# Altium schematic symbol library Logic Gate.SchLib: 73 symbols
Pins are listed as number, name and electrical type; pins without a type are passive.

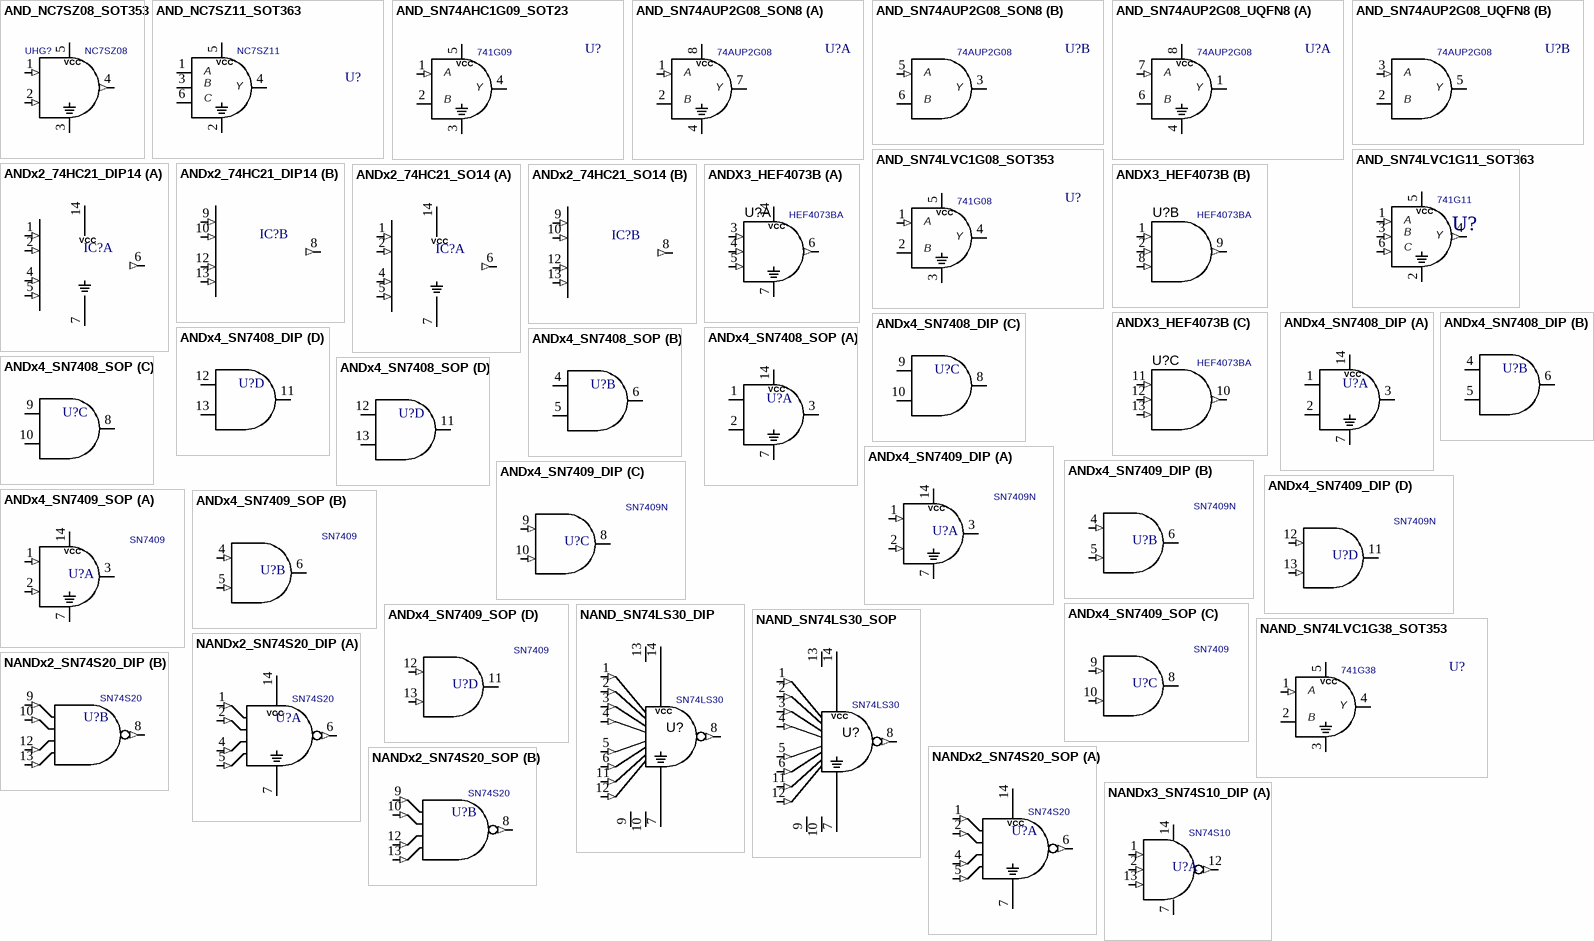
[diagram p0: symbols AND_NC7SZ08_SOT353 to NANDx3_SN74S10_DIP]

## AND_NC7SZ08_SOT353
designator UHG?, comment NC7SZ08
Gate, AND; MANF: FAIRCHILD; DIST#: MOUSER/512-NC7SZ08P5X; MANF_P#: NC7SZ08P5X; PRICE: 1= 0.34$; VALUE: NC7SZ08
footprint SOT353_5 (SC-88A, SC70-5, SOT-353, DCK (TI), DSO65_5_200X130)
pins: 1 A (in), 2 B (in), 3 GND, 4 Y (out), 5 VCC

## AND_NC7SZ11_SOT363
designator U?, comment NC7SZ11
GATE, AND, 3INP; MANF: Fairchild/ON; MANF_P#: NC7SZ11P6X; VALUE: NC7SZ11
footprint SOT363_6 (SOT-363, SC-70_6, BFS483, SC-88, MO-203AB, DSO65_6_200X130)
pins: 1 A, 2 Gnd (power), 3 B, 4 Y, 5 V+ (power), 6 C
text: VCC

## AND_SN74AHC1G09_SOT23
designator U?, comment 741G09
GATE, AND, 2INP, SOT23-5; MANF: TI; MANF_P#: SN74AHC1G09DBVR; PARAM2: 2~5.5VCC, 0.5~1.65VLO, 1.5~3.85VHI; PARAM: 8mA, 7.5ns@5V, 50pF, Open Drain; PRICE: 0.49$; VALUE: 741G09
footprint SOT23_5 (SOT-23-5, SOT25, SOT-25, DBV(R-PDSO-G5), TSOT23-5, SC-74A, SOT23-5, S5-T (LINEAR), MO-178AA, MO-193AB(JEDEC), MF05A (NS), TSOP-6(ON), UJ-5 (AD), 0.95mm pitch 3X1.5mm)
pins: 1 A (in), 2 B, 3 GND (power), 4 Y, 5 VCC (power)

## AND_SN74AUP2G08_SON8
designator U?, comment 74AUP2G08
GATE, AND, DUAL, 2INP, DQE package; MANF: TI; MANF_P#: SN74AUP2G08DQE; PARAM2: 0.8~3.6VCC; PARAM: 4mA, 5.9ns@3.3V, 1.5pF; PRICE: 0.5$; VALUE: 74AUP2G08
footprint SON35_8 (X2SON-8-DQE, pitch: 0.35mm, 1.4mmX1.00mm)
part A pins: 1 A1 (in), 2 B1, 4 GND (power), 7 Y1, 8 VCC (power)
part B pins: 3 Y2, 5 A2 (in), 6 B2
part A text: A; Y; B
part B text: A; Y; B

## AND_SN74AUP2G08_UQFN8
designator U?, comment 74AUP2G08
GATE, AND, DUAL, 2INP; MANF: TI; MANF_P#: SN74AUP2G08RSE; PARAM2: 0.8~3.6VCC; PARAM: 4mA, 5.9ns@3.3V, 1.5pF; PRICE: 0.8$; VALUE: 74AUP2G08
footprint QFN50_8 (RSE UQFN-8, 1.5X1.5X.6mm)
part A pins: 1 Y1, 4 GND (power), 6 B1, 7 A1 (in), 8 VCC (power)
part B pins: 2 B2, 3 A2 (in), 5 Y2
part A text: A; Y; B
part B text: A; Y; B

## AND_SN74LVC1G08_SOT353
designator U?, comment 741G08
GATE, AND, 2INP, SC-70-5; MANF: TI; MANF_P#: SN74LVC1G08DCKR; PARAM2: 2~5.5VCC, 0.5~1.65VLO, 1.5~3.85VHI; PARAM: 24mA, 3.6ns@3.3V, 50pF; PRICE: 0.49$; VALUE: 741G08
footprint SOT353_5 (SC-88A, SC70-5, SOT-353, DCK (TI), 0.65mm pitch 2X1.3mm body)
pins: 1 A (in), 2 B, 3 GND (power), 4 Y, 5 VCC (power)

## AND_SN74LVC1G11_SOT363
designator U?, comment 741G11
GATE, AND, 3INP, SC70-6; MANF: TI; MANF_P#: SN74LVC1G11DCK; VALUE: 741G11
footprint SOT363_6 (SOT-363, SC-70_6, BFS483, SC-88, MO-203AB, DSO65_6_200X130)
pins: 1 A (in), 2 GND, 3 B (in), 4 Y (out), 5 VCC, 6 C (in)

## ANDx2_74HC21_DIP14
designator IC?, comment 74HC21A  (value not drawn)
Gate, AND, Dual 4-Input; MANF: Texas Instruments; MANF_P#: SN74HC21N; Value: 74HC21A
footprint SO_14 (SOP, SOIC, 3.9mm width, 1.27mm pitch,)
part A pins: 1 A (in), 2 B (in), 4 C (in), 5 D (in), 6 Y (out), 7 GND (power), 14 VCC (power)
part B pins: 8 Y (out), 9 A (in), 10 B (in), 12 C (in), 13 D (in)

## ANDx2_74HC21_SO14
designator IC?, comment 74HC21A  (value not drawn)
Gate, AND, Dual 4-Input; MANF: Texas Instruments; MANF_P#: SN74HC21D; Value: 74HC21A
footprint SO_14 (SOP, SOIC, 3.9mm width, 1.27mm pitch,)
part A pins: 1 A (in), 2 B (in), 4 C (in), 5 D (in), 6 Y (out), 7 GND (power), 14 VCC (power)
part B pins: 8 Y (out), 9 A (in), 10 B (in), 12 C (in), 13 D (in)

## ANDX3_HEF4073B
designator U?, comment HEF4073BA
Gate, AND, Triple 3-input, SOP14; MANF: NXP Semiconductors; MANF_P#: HEF4073BT,653; PARAM2: 3 V ~ 15 V; PARAM: 3mA, 3mA; VALUE: HEF4073BA
footprint SO_14 (SOP, SOIC, 3.9mm width, 1.27mm pitch,)
part A pins: 3 A1 (in), 4 B1 (in), 5 C1 (in), 6 Y1 (out), 7 GND (power), 14 VCC (power)
part B pins: 1 A2 (in), 2 B2 (in), 8 C2 (in), 9 Y2 (out)
part C pins: 10 Y3 (out), 11 A3 (in), 12 B3 (in), 13 C3 (in)

## ANDx4_SN7408_DIP
designator U?, comment SN7408  (value not drawn)
Gate, AND, Quad 2 Input; MANF: Texas Instruments; MANF_P#: SN74LS08N; Value: SN7408
footprint DIP_14 (DIP, pitch 2.54mm, 300mil Width)
part A pins: 1, 2, 3, 7 GND (power), 14 VCC (power)
part B pins: 4, 5, 6
part C pins: 8, 9, 10
part D pins: 11, 12, 13

## ANDx4_SN7408_SOP
designator U?, comment SN7408  (value not drawn)
Gate, AND, Quad 2 Input; MANF: Texas Instruments; MANF_P#: SN74LS08D; Value: SN7408
footprint SO_14 (SOP, SOIC, 3.9mm width, 1.27mm pitch,)
part A pins: 1, 2, 3, 7 GND (power), 14 VCC (power)
part B pins: 4, 5, 6
part C pins: 8, 9, 10
part D pins: 11, 12, 13

## ANDx4_SN7409_DIP
designator U?, comment SN7409N
Gate, AND, Quad 2-Input with Open-Collector Outputs; MANF: Texas Instruments; MANF_P#: SN7409N; VALUE: SN7409N
footprint DIP_14 (DIP, pitch 2.54mm, 300mil Width)
part A pins: 1 A (in), 2 B (in), 3 Y (oc), 7 GND (power), 14 VCC (power)
part B pins: 4 A (in), 5 B (in), 6 Y (oc)
part C pins: 8 Y (oc), 9 A (in), 10 B (in)
part D pins: 11 Y (oc), 12 A (in), 13 B (in)

## ANDx4_SN7409_SOP
designator U?, comment SN7409
Gate, AND, Quad 2-Input with Open-Collector Outputs; MANF: Texas Instruments; MANF_P#: SN7409D; VALUE: SN7409
footprint SO_14 (SOP, SOIC, 3.9mm width, 1.27mm pitch,)
part A pins: 1 A (in), 2 B (in), 3 Y (oc), 7 GND (power), 14 VCC (power)
part B pins: 4 A (in), 5 B (in), 6 Y (oc)
part C pins: 8 Y (oc), 9 A (in), 10 B (in)
part D pins: 11 Y (oc), 12 A (in), 13 B (in)

## NAND_SN74LS30_DIP
designator U?, comment SN74LS30
GATE, NAND, 8INPUT; MANF: Texas Instruments; MANF_P#: SN74LS30N; PARAM2: 4.75V~5.25V; PARAM: 16mA, 22ns; VALUE: SN74LS30
footprint DIP_14 (DIP, pitch 2.54mm, 300mil Width)
pins: 1 A (in), 2 B (in), 3 C (in), 4 D (in), 5 E (in), 6 F (in), 7 GND (power), 8 Y (out), 9 NC, 10 NC, 11 G (in), 12 H (in), 13 NC, 14 VCC (power)

## NAND_SN74LS30_SOP
designator U?, comment SN74LS30
GATE, NAND, 8INPUT; MANF: Texas Instruments; MANF_P#: SN74LS30D; PARAM2: 4.75V~5.25V; PARAM: 16mA, 22ns; VALUE: SN74LS30
footprint SO_14 (SOP, SOIC, 3.9mm width, 1.27mm pitch,)
pins: 1 A (in), 2 B (in), 3 C (in), 4 D (in), 5 E (in), 6 F (in), 7 GND (power), 8 Y (out), 9 NC, 10 NC, 11 G (in), 12 H (in), 13 NC, 14 VCC (power)

## NAND_SN74LVC1G38_SOT353
designator U?, comment 741G38
GATE, NAND, 2INP, SC-70-5; MANF: TI; MANF_P#: SN74LVC1G38DCK; PARAM2: 2~5.5VCC, 0.5~1.65VLO, 1.5~3.85VHI; PARAM: 24mA, 3.6ns@3.3V, 50pF; PRICE: 0.35$; VALUE: 741G38
footprint SOT353_5 (SC-88A, SC70-5, SOT-353, DCK (TI), 0.65mm pitch 2X1.3mm body)
pins: 1 A (in), 2 B, 3 GND (power), 4 Y, 5 VCC (power)

## NANDx2_SN74S20_DIP
designator U?, comment SN74S20
GATE, NAND, Dual 4-Input; MANF: Texas Instruments; MANF_P#: SN74S20N; PARAM2: 4.75~5.25V; PARAM: 20mA, 5ns; VALUE: SN74S20
footprint DIP_14 (DIP, pitch 2.54mm, 300mil Width)
part A pins: 1 A (in), 2 B (in), 4 C (in), 5 D (in), 6 Y (out), 7 GND (power), 14 VCC (power)
part B pins: 8 Y (out), 9 A (in), 10 B (in), 12 C (in), 13 D (in)

## NANDx2_SN74S20_SOP
designator U?, comment SN74S20
GATE, NAND, Dual 4-Input; MANF: Texas Instruments; MANF_P#: SN74S20D; PARAM2: 4.75~5.25V; PARAM: 20mA, 5ns; VALUE: SN74S20
footprint SO_14 (SOP, SOIC, 3.9mm width, 1.27mm pitch,)
part A pins: 1 A (in), 2 B (in), 4 C (in), 5 D (in), 6 Y (out), 7 GND (power), 14 VCC (power)
part B pins: 8 Y (out), 9 A (in), 10 B (in), 12 C (in), 13 D (in)

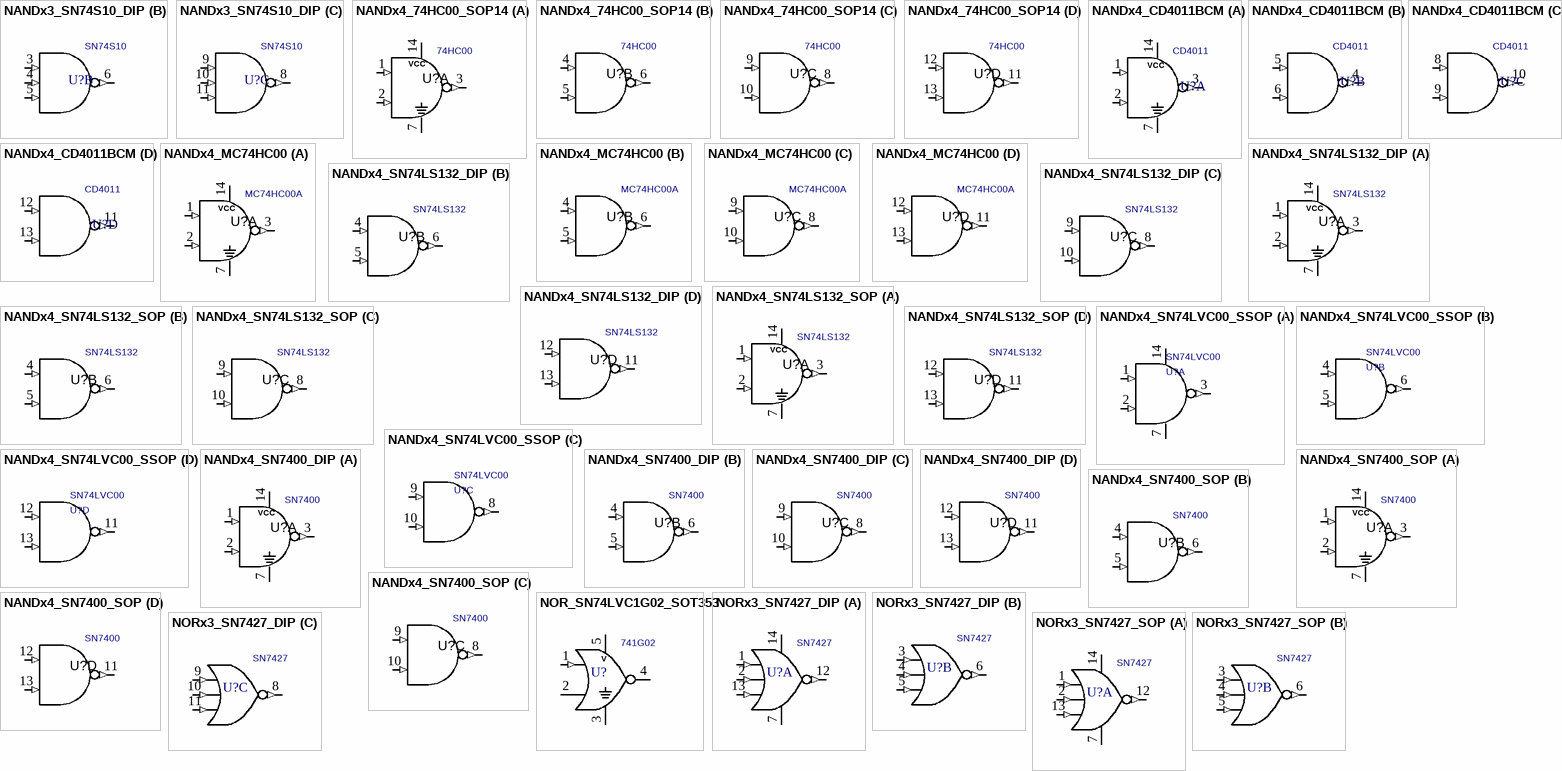
[diagram p1: symbols NANDx3_SN74S10_DIP to NORx3_SN7427_SOP]

## NANDx3_SN74S10_DIP
designator U?, comment SN74S10
Gate, NAND, Triple 3-Input; MANF: Texas Instruments; MANF_P#: SN74S10N; VALUE: SN74S10
footprint DIP_14 (DIP, pitch 2.54mm, 300mil Width)
part A pins: 1 A (in), 2 B (in), 7 GND (power), 12 Y (out), 13 C (in), 14 VCC (power)
part B pins: 3 A (in), 4 B (in), 5 C (in), 6 Y (out)
part C pins: 8 Y (out), 9 A (in), 10 B (in), 11 C (in)

## NANDx4_74HC00_SOP14
designator U?, comment 74HC00
GATE, NAND, QUAD 2INPUT; MANF: NXP; MANF_P#: 74HC00D; PARAM2: 2V~6V; PARAM: 20mA; PRICE: 300@PAYA; VALUE: 74HC00
footprint SO_14 (SOP, SOIC, 3.9mm width, 1.27mm pitch,)
part A pins: 1 A1 (in), 2 B1 (in), 3 Y1 (out), 7 GND (power), 14 VCC (power)
part B pins: 4 A2 (in), 5 B2 (in), 6 Y2 (out)
part C pins: 8 Y3 (out), 9 A3 (in), 10 B3 (in)
part D pins: 11 Y4 (out), 12 A4 (in), 13 B4 (in)

## NANDx4_CD4011BCM
designator U?, comment CD4011
GATE, NAND, Quad 2-Input; MANF_P#: CD4011BCMA; VALUE: CD4011
footprint SO_14 (SOP, SOIC, 3.9mm width, 1.27mm pitch,)
part A pins: 1 A (in), 2 B (in), 3 J (out), 7 GND (power), 14 VDD (power)
part B pins: 4 J (out), 5 A (in), 6 B (in)
part C pins: 8 A (in), 9 F (in), 10 J (out)
part D pins: 11 J (out), 12 A (in), 13 B (in)
part A text: VCC

## NANDx4_MC74HC00
designator U?, comment MC74HC00A
GATE, NAND, QUAD 2INPUT; MANF: ON Semiconductor; MANF_P#: MC74HC00ADG; PARAM2: 2~6V; PARAM: 5.2mA, 5.2mA; VALUE: MC74HC00A
footprint SO_14 (SOP, SOIC, 3.9mm width, 1.27mm pitch,)
part A pins: 1 A1 (in), 2 B1 (in), 3 Y1 (out), 7 GND (power), 14 VCC (power)
part B pins: 4 A2 (in), 5 B2 (in), 6 Y2 (out)
part C pins: 8 Y3 (out), 9 A3 (in), 10 B3 (in)
part D pins: 11 Y4 (out), 12 A4 (in), 13 B4 (in)

## NANDx4_SN74LS132_DIP
designator U?, comment SN74LS132
GATE, NAND, QUAD 2INPUT Schmitt Trigger; MANF: Texas Instruments; MANF_P#: SN74LS132N; PARAM2: 4.75V~5.25V; PARAM: 16mA, 40ns; VALUE: SN74LS132
footprint DIP_14 (DIP, pitch 2.54mm, 300mil Width)
part A pins: 1 A1 (in), 2 B1 (in), 3 Y1 (out), 7 GND (power), 14 VCC (power)
part B pins: 4 A2 (in), 5 B2 (in), 6 Y2 (out)
part C pins: 8 Y3 (out), 9 A3 (in), 10 B3 (in)
part D pins: 11 Y4 (out), 12 A4 (in), 13 B4 (in)

## NANDx4_SN74LS132_SOP
designator U?, comment SN74LS132
GATE, NAND, QUAD 2INPUT Schmitt Trigger; MANF: Texas Instruments; MANF_P#: SN74LS132D; PARAM2: 4.75V~5.25V; PARAM: 16mA, 40ns; VALUE: SN74LS132
footprint SO_14 (SOP, SOIC, 3.9mm width, 1.27mm pitch,)
part A pins: 1 A1 (in), 2 B1 (in), 3 Y1 (out), 7 GND (power), 14 VCC (power)
part B pins: 4 A2 (in), 5 B2 (in), 6 Y2 (out)
part C pins: 8 Y3 (out), 9 A3 (in), 10 B3 (in)
part D pins: 11 Y4 (out), 12 A4 (in), 13 B4 (in)

## NANDx4_SN74LVC00_SSOP
designator U?, comment SN74LVC00
GATE, NAND, QUAD 2Input; MANF: Texas Instruments; MANF_P#: SN74LVC00APWR; PARAM2: 2~3.6V; PARAM: 24mA, 4.3nS; VALUE: SN74LVC00
footprint SOG65_14 (PW TSSOP (TI), MO-153-AB (JEDEC), 14Lead, pitch: 0.65mm, 5x4.4x1.2mm)
part A pins: 1 A (in), 2 B (in), 3 Y (out), 7 GND (power), 14 VCC (power)
part B pins: 4 A (in), 5 B (in), 6 Y (out)
part C pins: 8 Y (out), 9 A (in), 10 B (in)
part D pins: 11 Y (out), 12 A (in), 13 B (in)

## NANDx4_SN7400_DIP
designator U?, comment SN7400
GATE, NAND, QUAD 2INPUT; MANF: Texas Instruments; MANF_P#: SN7400N; PARAM2: 4.75V~5.25V; PARAM: 16mA; VALUE: SN7400
footprint DIP_14 (DIP, pitch 2.54mm, 300mil Width)
part A pins: 1 A1 (in), 2 B1 (in), 3 Y1 (out), 7 GND (power), 14 VCC (power)
part B pins: 4 A2 (in), 5 B2 (in), 6 Y2 (out)
part C pins: 8 Y3 (out), 9 A3 (in), 10 B3 (in)
part D pins: 11 Y4 (out), 12 A4 (in), 13 B4 (in)

## NANDx4_SN7400_SOP
designator U?, comment SN7400
GATE, NAND, QUAD 2INPUT; MANF: Texas Instruments; MANF_P#: SN7400D; PARAM2: 4.75V~5.25V; PARAM: 16mA; VALUE: SN7400
footprint SO_14 (SOP, SOIC, 3.9mm width, 1.27mm pitch,)
part A pins: 1 A1 (in), 2 B1 (in), 3 Y1 (out), 7 GND (power), 14 VCC (power)
part B pins: 4 A2 (in), 5 B2 (in), 6 Y2 (out)
part C pins: 8 Y3 (out), 9 A3 (in), 10 B3 (in)
part D pins: 11 Y4 (out), 12 A4 (in), 13 B4 (in)

## NOR_SN74LVC1G02_SOT353
designator U?, comment 741G02
GATE, NOR, One 2 INPUT; MANF: Texas Instruments; MANF_P#: SN74LVC1G02MDCK; VALUE: 741G02
footprint SOT353_5 (SC-88A, SC70-5, SOT-353, DCK (TI), 0.65mm pitch 2X1.3mm body)
pins: 1 A (in), 2 B, 3 GND (power), 4 Y, 5 VCC (power)
text: V

## NORx3_SN7427_DIP
designator U?, comment SN7427
Gate, NOR, Triple 3-Input; MANF: Texas Instruments; MANF_P#: SN74LS27N; PARAM2: 4.75~5.25V; PARAM: 16mA, 22ns; VALUE: SN7427
footprint DIP_14 (DIP, pitch 2.54mm, 300mil Width)
part A pins: 1 A (in), 2 B (in), 7 GND (power), 12 Y (out), 13 C (in), 14 VCC (power)
part B pins: 3 A (in), 4 B (in), 5 C (in), 6 Y (out)
part C pins: 8 Y (out), 9 A (in), 10 B (in), 11 C (in)

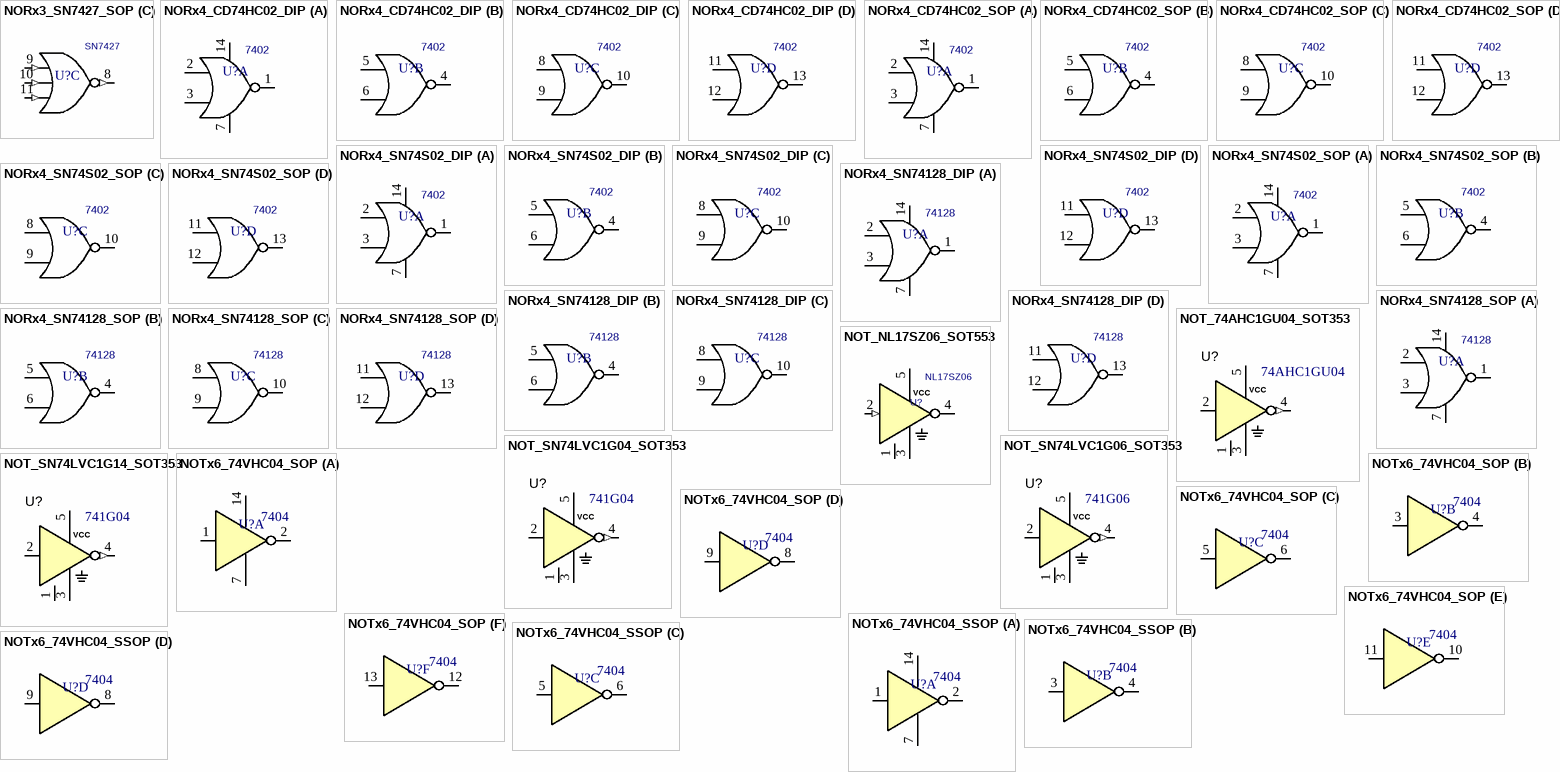
[diagram p2: symbols NORx3_SN7427_SOP to NOTx6_74VHC04_SSOP]

## NORx3_SN7427_SOP
designator U?, comment SN7427
Gate, NOR, Triple 3-Input; MANF: Texas Instruments; MANF_P#: SN74LS27D; PARAM2: 4.75~5.25V; PARAM: 16mA, 22ns; VALUE: SN7427
footprint SO_14 (SOP, SOIC, 3.9mm width, 1.27mm pitch,)
part A pins: 1 A (in), 2 B (in), 7 GND (power), 12 Y (out), 13 C (in), 14 VCC (power)
part B pins: 3 A (in), 4 B (in), 5 C (in), 6 Y (out)
part C pins: 8 Y (out), 9 A (in), 10 B (in), 11 C (in)

## NORx4_CD74HC02_DIP
designator U?, comment 7402
Gate, NOR, Quad 2 Input; MANF: Texas Instruments; MANF_P#: CD74HC02E; PARAM2: 2~6V; PARAM: 5.2mA, 23ns; Value: 7402
footprint DIP_14 (DIP, pitch 2.54mm, 300mil Width)
part A pins: 1, 2, 3, 7 GND, 14 VCC
part B pins: 4, 5, 6
part C pins: 8, 9, 10
part D pins: 11, 12, 13

## NORx4_CD74HC02_SOP
designator U?, comment 7402
Gate, NOR, Quad 2 Input; MANF: Texas Instruments; MANF_P#: CD74HC02M; PARAM2: 2~6V; PARAM: 5.2mA, 23ns; Value: 7402
footprint SO_14 (SOP, SOIC, 3.9mm width, 1.27mm pitch,)
part A pins: 1, 2, 3, 7 GND, 14 VCC
part B pins: 4, 5, 6
part C pins: 8, 9, 10
part D pins: 11, 12, 13

## NORx4_SN74S02_DIP
designator U?, comment 7402
Gate, NOR, Quad 2 Input; MANF: Texas Instruments; MANF_P#: SN74S02N; PARAM2: 4.75~5.25V; PARAM: 16mA, 22ns; Value: 7402
footprint DIP_14 (DIP, pitch 2.54mm, 300mil Width)
part A pins: 1, 2, 3, 7 GND, 14 VCC
part B pins: 4, 5, 6
part C pins: 8, 9, 10
part D pins: 11, 12, 13

## NORx4_SN74S02_SOP
designator U?, comment 7402
Gate, NOR, Quad 2 Input; MANF: Texas Instruments; MANF_P#: SN74S02D; PARAM2: 4.75~5.25V; PARAM: 16mA, 22ns; Value: 7402
footprint SO_14 (SOP, SOIC, 3.9mm width, 1.27mm pitch,)
part A pins: 1, 2, 3, 7 GND, 14 VCC
part B pins: 4, 5, 6
part C pins: 8, 9, 10
part D pins: 11, 12, 13

## NORx4_SN74128_DIP
designator U?, comment 74128
Gate, NOR, Quad 2 Input; MANF: Texas Instruments; MANF_P#: SN74128N; PARAM2: 4.75~5.25V; PARAM: 16mA, 22ns; Value: 74128
footprint DIP_14 (DIP, pitch 2.54mm, 300mil Width)
part A pins: 1, 2, 3, 7 GND, 14 VCC
part B pins: 4, 5, 6
part C pins: 8, 9, 10
part D pins: 11, 12, 13

## NORx4_SN74128_SOP
designator U?, comment 74128
Gate, NOR, Quad 2 Input; MANF: Texas Instruments; MANF_P#: SN74128D; PARAM2: 4.75~5.25V; PARAM: 16mA, 22ns; Value: 74128
footprint SO_14 (SOP, SOIC, 3.9mm width, 1.27mm pitch,)
part A pins: 1, 2, 3, 7 GND, 14 VCC
part B pins: 4, 5, 6
part C pins: 8, 9, 10
part D pins: 11, 12, 13

## NOT_74AHC1GU04_SOT353
designator U?, comment 74AHC1GU04
GATE, NOT, SINGLE, SOT353 SMD; MANF: NXP; MANF_P#: 74AHC1GU04GW,125; PARAM2: 2~5.5V; VALUE: 74AHC1GU04
footprint SOT353_5 (SC-88A, SC70-5, SOT-353, DCK (TI), 0.65mm pitch 2X1.3mm body)
pins: 1 NC, 2 A, 3 GND (power), 4 Y (out), 5 VCC (power)

## NOT_NL17SZ06_SOT553
designator U?, comment NL17SZ06
GATE, NOT, SINGLE 1.65-5.5V SOT-553; MANF: ON; MANF_P#: NL17SZ06XV5T2G; PARAM2: 1.65-5.5V; VALUE: NL17SZ06
footprint SOT553_5 (SOT-553, 5 LEAD, Body 1.2x1.6mm, Pitch 0.50mm, DSO50_5_160X120)
pins: 1 NC, 2 I (in), 3 G (power), 4 O (oc), 5 V (power)
text: VCC

## NOT_SN74LVC1G04_SOT353
designator U?, comment 741G04
GATE, NOT, SINGLE, SOT353 SMD; MANF: Texas Instruments; MANF_P#: SN74LVC1GU04DCK; PARAM2: 2~5.5V; VALUE: 741G04
footprint SOT353_5 (SC-88A, SC70-5, SOT-353, DCK (TI), 0.65mm pitch 2X1.3mm body)
pins: 1 NC, 2 A, 3 GND (power), 4 Y (out), 5 VCC (power)

## NOT_SN74LVC1G06_SOT353
designator U?, comment 741G06
GATE, NOT, SINGLE, SOT353 SMD; MANF: Texas Instruments; MANF_P#: SN74LVC1G06DCK; PARAM2: 1.65~5.5V; PARAM: 24mA, 4.5nsTpd, -40~125oC; VALUE: 741G06
footprint SOT353_5 (SC-88A, SC70-5, SOT-353, DCK (TI), 0.65mm pitch 2X1.3mm body)
pins: 1 NC, 2 A, 3 GND (power), 4 Y (out), 5 VCC (power)

## NOT_SN74LVC1G14_SOT353
designator U?, comment 741G04
GATE, NOT, SINGLE, ShmittTrigger, SOT353 SMD; MANF: Texas Instruments; MANF_P#: SN74LVC1GU14DCK; PARAM2: 2~5.5V; VALUE: 741G04
footprint SOT353_5 (SC-88A, SC70-5, SOT-353, DCK (TI), 0.65mm pitch 2X1.3mm body)
pins: 1 NC, 2 A, 3 GND (power), 4 Y (out), 5 VCC (power)

## NOTx6_74VHC04_SOP
designator U?, comment 7404
GATE, NOT, HEX inverter; MANF: ON; MANF_P#: 74VHC04M, 74VHC04MX; PARAM2: 2~5.5V; Value: 7404
footprint SO_14 (SOP, SOIC, 3.9mm width, 1.27mm pitch,)
footprint CDIP14 (14-Pin Ceramic DIP (DD14) NARROW_(300mil width) - 100mil pitch)
part A pins: 1, 2, 7 GND (power), 14 VCC (power)
part B pins: 3, 4
part C pins: 5, 6
part D pins: 8, 9
part E pins: 10, 11
part F pins: 12, 13

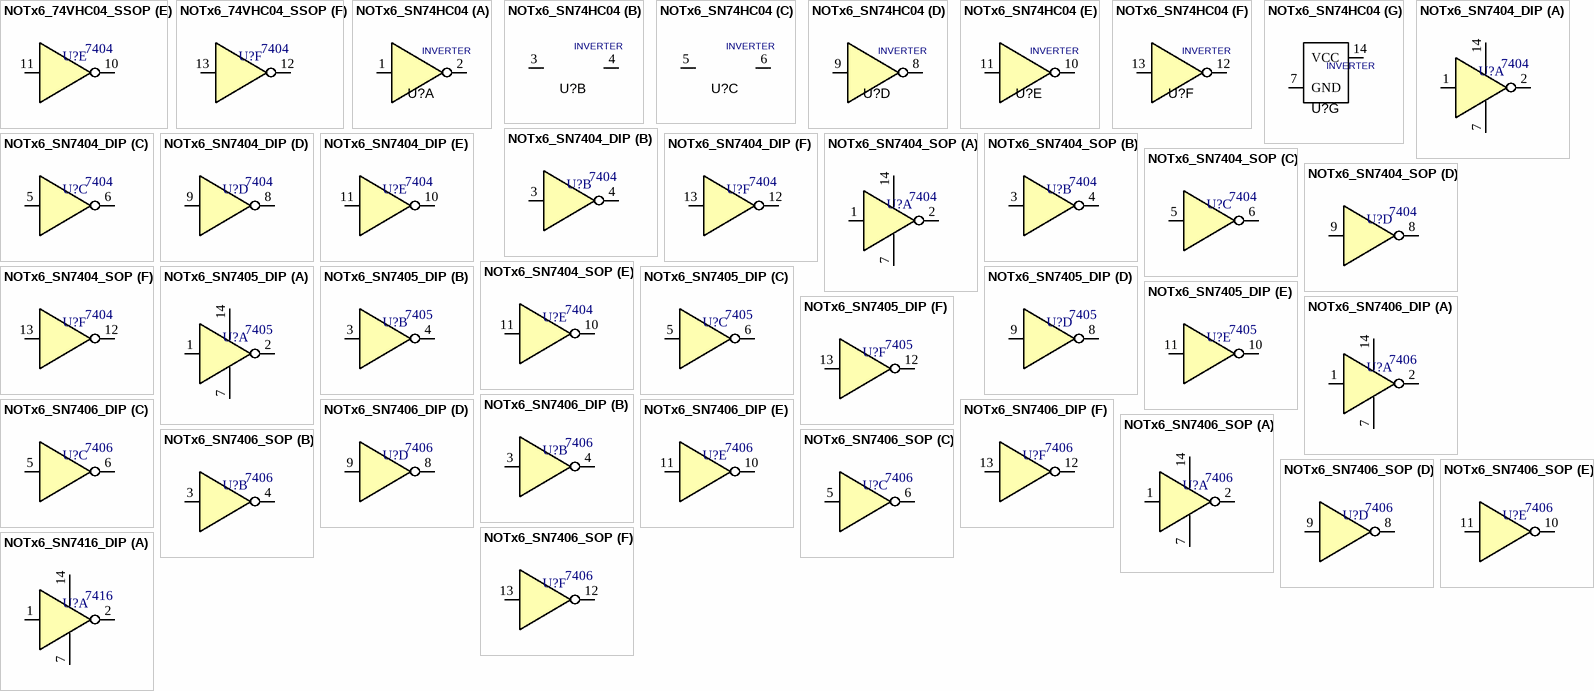
[diagram p3: symbols NOTx6_74VHC04_SSOP to NOTx6_SN7416_DIP]

## NOTx6_74VHC04_SSOP
designator U?, comment 7404
GATE, NOT, HEX inverter; MANF: ON; MANF_P#: 74VHC04MTC, 74VHC04MTCX; PARAM2: 2~5.5V; Value: 7404
footprint SOG65_14 (PW TSSOP (TI), MO-153-AB (JEDEC), 14Lead, pitch: 0.65mm, 5x4.4x1.2mm)
footprint CDIP14 (14-Pin Ceramic DIP (DD14) NARROW_(300mil width) - 100mil pitch)
part A pins: 1, 2, 7 GND (power), 14 VCC (power)
part B pins: 3, 4
part C pins: 5, 6
part D pins: 8, 9
part E pins: 10, 11
part F pins: 12, 13

## NOTx6_SN74HC04
designator U?, comment INVERTER
Inverter IC Logic-level 6 section SOP-14 SMD; MANF: Texas Instruments; MANF_P#: SN74HC04NSR; PARAM2: 2 V ~ 6 V; PARAM: 5.2mA, 5.2mA; VALUE: INVERTER
footprint SOIC127P780X200-14N (SOIC, 14 Leads, Body 10.5x3.9mm, Pitch 1.27mm, IPC Medium Density)
part A pins: 1 1A, 2 1Y
part B pins: 3 2A, 4 2Y
part C pins: 5 3A, 6 3Y
part D pins: 8 4Y, 9 4A
part E pins: 10 5Y, 11 5A
part F pins: 12 6Y, 13 6A
part G pins: 7 GND, 14 VCC

## NOTx6_SN7404_DIP
designator U?, comment 7404
GATE, NOT, HEX inverter; MANF: Texas Instruments; MANF_P#: SN74LS04N; Value: 7404
footprint DIP_14 (DIP, pitch 2.54mm, 300mil Width)
footprint CDIP14 (14-Pin Ceramic DIP (DD14) NARROW_(300mil width) - 100mil pitch)
part A pins: 1, 2, 7 GND (power), 14 VCC (power)
part B pins: 3, 4
part C pins: 5, 6
part D pins: 8, 9
part E pins: 10, 11
part F pins: 12, 13

## NOTx6_SN7404_SOP
designator U?, comment 7404
GATE, NOT, HEX inverter; MANF: Texas Instruments; MANF_P#: SN74LS04D; Value: 7404
footprint SO_14 (SOP, SOIC, 3.9mm width, 1.27mm pitch,)
footprint CDIP14 (14-Pin Ceramic DIP (DD14) NARROW_(300mil width) - 100mil pitch)
part A pins: 1, 2, 7 GND (power), 14 VCC (power)
part B pins: 3, 4
part C pins: 5, 6
part D pins: 8, 9
part E pins: 10, 11
part F pins: 12, 13

## NOTx6_SN7405_DIP
designator U?, comment 7405
GATE, NOT, HEX inverter, OpenCollector; MANF: Texas Instruments; MANF_P#: SN7405N; Value: 7405
footprint DIP_14 (DIP, pitch 2.54mm, 300mil Width)
footprint CDIP14 (14-Pin Ceramic DIP (DD14) NARROW_(300mil width) - 100mil pitch)
part A pins: 1, 2, 7 GND (power), 14 VCC (power)
part B pins: 3, 4
part C pins: 5, 6
part D pins: 8, 9
part E pins: 10, 11
part F pins: 12, 13

## NOTx6_SN7406_DIP
designator U?, comment 7406
GATE, NOT, HEX inverter, OpenCollector; MANF: Texas Instruments; MANF_P#: SN7406N; Value: 7406
footprint DIP_14 (DIP, pitch 2.54mm, 300mil Width)
footprint CDIP14 (14-Pin Ceramic DIP (DD14) NARROW_(300mil width) - 100mil pitch)
part A pins: 1, 2, 7 GND (power), 14 VCC (power)
part B pins: 3, 4
part C pins: 5, 6
part D pins: 8, 9
part E pins: 10, 11
part F pins: 12, 13

## NOTx6_SN7406_SOP
designator U?, comment 7406
GATE, NOT, HEX inverter, OpenCollector; MANF: Texas Instruments; MANF_P#: SN7406D; Value: 7406
footprint SO_14 (SOP, SOIC, 3.9mm width, 1.27mm pitch,)
footprint CDIP14 (14-Pin Ceramic DIP (DD14) NARROW_(300mil width) - 100mil pitch)
part A pins: 1, 2, 7 GND (power), 14 VCC (power)
part B pins: 3, 4
part C pins: 5, 6
part D pins: 8, 9
part E pins: 10, 11
part F pins: 12, 13

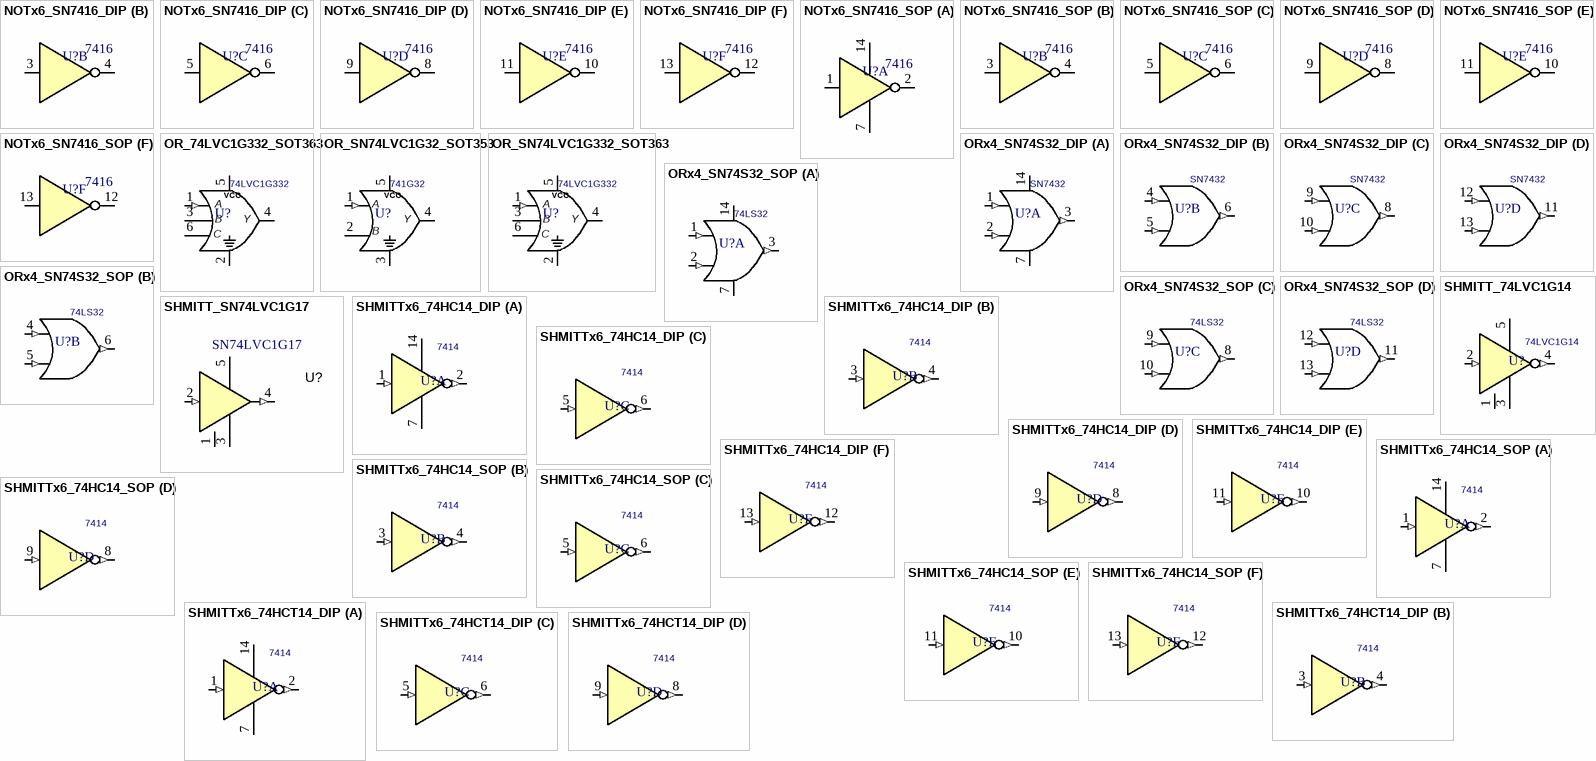
[diagram p4: symbols NOTx6_SN7416_DIP to SHMITTx6_74HCT14_DIP]

## NOTx6_SN7416_DIP
designator U?, comment 7416
GATE, NOT, HEX inverter, OpenCollector; MANF: Texas Instruments; MANF_P#: SN7416N; Value: 7416
footprint DIP_14 (DIP, pitch 2.54mm, 300mil Width)
footprint CDIP14 (14-Pin Ceramic DIP (DD14) NARROW_(300mil width) - 100mil pitch)
part A pins: 1, 2, 7 GND (power), 14 VCC (power)
part B pins: 3, 4
part C pins: 5, 6
part D pins: 8, 9
part E pins: 10, 11
part F pins: 12, 13

## NOTx6_SN7416_SOP
designator U?, comment 7416
GATE, NOT, HEX inverter, OpenCollector; MANF: Texas Instruments; MANF_P#: SN7416D; Value: 7416
footprint SO_14 (SOP, SOIC, 3.9mm width, 1.27mm pitch,)
footprint CDIP14 (14-Pin Ceramic DIP (DD14) NARROW_(300mil width) - 100mil pitch)
part A pins: 1, 2, 7 GND (power), 14 VCC (power)
part B pins: 3, 4
part C pins: 5, 6
part D pins: 8, 9
part E pins: 10, 11
part F pins: 12, 13

## OR_74LVC1G332_SOT363
designator U?, comment 74LVC1G332
GATE, OR, One 3 INPUT; MANF: Nexperia; PARAM2: 1.65~5.5V, 24mA; MANF_P#: 74LVC1G332GW; PRICE: 0.65$; VALUE: 74LVC1G332
footprint SOT363_6 (SOT-363, SC-70_6, BFS483, SC-88, MO-203AB, DSO65_6_200X130)
pins: 1 A (in), 2 GND (power), 3 B, 4 Y, 5 VCC (power), 6 C

## OR_SN74LVC1G32_SOT353
designator U?, comment 741G32
GATE, OR, One 2 INPUT; MANF: Texas Instruments; MANF_P#: SN74LVC1G32MDCK; VALUE: 741G32
footprint SOT353_5 (SC-88A, SC70-5, SOT-353, DCK (TI), 0.65mm pitch 2X1.3mm body)
pins: 1 A (in), 2 B, 3 GND (power), 4 Y, 5 VCC (power)

## OR_SN74LVC1G332_SOT363
designator U?, comment 74LVC1G332
GATE, OR, One 3 INPUT; MANF: Texas Instruments; PARAM2: 1.65~5.5V, 24mA; MANF_P#: SN74LVC1G332DBVR; PRICE: 0.35$; VALUE: 74LVC1G332
footprint SOT363_6 (SOT-363, SC-70_6, BFS483, SC-88, MO-203AB, DSO65_6_200X130)
pins: 1 A (in), 2 GND (power), 3 B, 4 Y, 5 VCC (power), 6 C

## ORx4_SN74S32_DIP
designator U?, comment SN7432
GATE, OR, QUAD 2 INPUT; MANF: Texas Instruments; MANF_P#: SN74S32N; VALUE: SN7432
footprint DIP_14 (DIP, pitch 2.54mm, 300mil Width)
part A pins: 1 A (in), 2 B (in), 3 Y (out), 7 GND (power), 14 VCC (power)
part B pins: 4 A (in), 5 B (in), 6 Y (out)
part C pins: 8 Y (out), 9 A (in), 10 B (in)
part D pins: 11 Y (out), 12 A (in), 13 B (in)

## ORx4_SN74S32_SOP
designator U?, comment 74LS32
GATE, OR, QUAD 2 INPUT; MANF: Texas Instruments; MANF_P#: SN74S32D; VALUE: 74LS32
footprint SO_14 (SOP, SOIC, 3.9mm width, 1.27mm pitch,)
part A pins: 1 A (in), 2 B (in), 3 Y (out), 7 GND (power), 14 VCC (power)
part B pins: 4 A (in), 5 B (in), 6 Y (out)
part C pins: 8 Y (out), 9 A (in), 10 B (in)
part D pins: 11 Y (out), 12 A (in), 13 B (in)

## SHMITT_74LVC1G14
designator U?, comment 74LVC1G14
Schmitt-Trigger Inverter; MANF: NXP; MANF_P#: 74LVC1G14GW; VALUE: 74LVC1G14
footprint SOT353_5 (SC-88A, SC70-5, SOT-353, DCK (TI), 0.65mm pitch 2X1.3mm body)
pins: 1 NC, 2 A (in), 3 GND (power), 4 Y (out), 5 VCC (power)

## SHMITT_SN74LVC1G17
designator U?, comment SN74LVC1G17
Schmitt-Trigger, BUFFER, DCK; MANF: Texas Instruments; MANF_P#: SN74LVC1G17DCK; PARAM2: 1.65~5.5V, ±24mA; VALUE: SN74LVC1G17
footprint SOT353_5 (SC-88A, SC70-5, SOT-353, DCK (TI), 0.65mm pitch 2X1.3mm body)
pins: 1 NC, 2 A (in), 3 GND (power), 4 Y (out), 5 VCC (power)

## SHMITTx6_74HC14_DIP
designator U?, comment 7414
Schmitt-Trigger, Hex Inverter; MANF: NXP, DIODES, TI; MANF_P#: SN74HC14N; VALUE: 7414
footprint DIP_14 (DIP, pitch 2.54mm, 300mil Width)
part A pins: 1 A (in), 2 Y (out), 7 GND (power), 14 VCC (power)
part B pins: 3 A (in), 4 Y (out)
part C pins: 5 A (in), 6 Y (out)
part D pins: 8 Y (out), 9 A (in)
part E pins: 10 Y (out), 11 A (in)
part F pins: 12 Y (out), 13 A (in)

## SHMITTx6_74HC14_SOP
designator U?, comment 7414
Schmitt-Trigger, Hex Inverter; MANF: NXP, DIODES, TI; MANF_P#: SN74HC14D; VALUE: 7414
footprint SO_14 (SOP, SOIC, 3.9mm width, 1.27mm pitch,)
part A pins: 1 A (in), 2 Y (out), 7 GND (power), 14 VCC (power)
part B pins: 3 A (in), 4 Y (out)
part C pins: 5 A (in), 6 Y (out)
part D pins: 8 Y (out), 9 A (in)
part E pins: 10 Y (out), 11 A (in)
part F pins: 12 Y (out), 13 A (in)

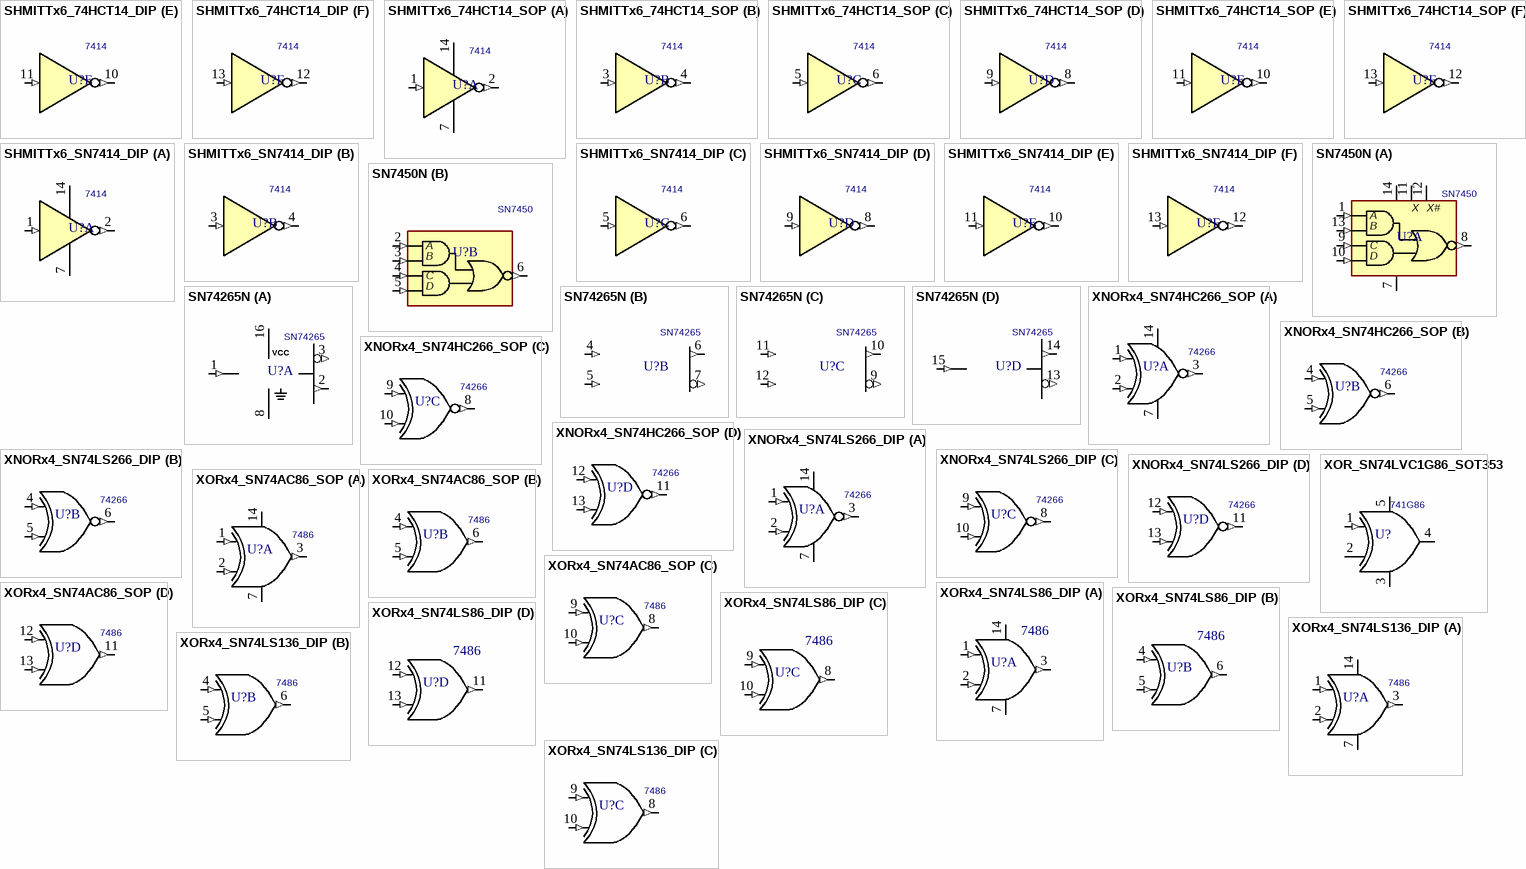
[diagram p5: symbols SHMITTx6_74HCT14_DIP to XORx4_SN74LS136_DIP]

## SHMITTx6_74HCT14_DIP
designator U?, comment 7414
Schmitt-Trigger, Hex Inverter; MANF: NXP, DIODES, TI; MANF_P#: SN74HCT14N; VALUE: 7414
footprint DIP_14 (DIP, pitch 2.54mm, 300mil Width)
part A pins: 1 A (in), 2 Y (out), 7 GND (power), 14 VCC (power)
part B pins: 3 A (in), 4 Y (out)
part C pins: 5 A (in), 6 Y (out)
part D pins: 8 Y (out), 9 A (in)
part E pins: 10 Y (out), 11 A (in)
part F pins: 12 Y (out), 13 A (in)

## SHMITTx6_74HCT14_SOP
designator U?, comment 7414
Schmitt-Trigger, Hex Inverter; MANF: NXP, DIODES, TI; MANF_P#: SN74HCT14D; VALUE: 7414
footprint SO_14 (SOP, SOIC, 3.9mm width, 1.27mm pitch,)
part A pins: 1 A (in), 2 Y (out), 7 GND (power), 14 VCC (power)
part B pins: 3 A (in), 4 Y (out)
part C pins: 5 A (in), 6 Y (out)
part D pins: 8 Y (out), 9 A (in)
part E pins: 10 Y (out), 11 A (in)
part F pins: 12 Y (out), 13 A (in)

## SHMITTx6_SN7414_DIP
designator U?, comment 7414
Schmitt-Trigger, Hex Inverter; MANF: NXP, DIODES, TI; MANF_P#: SN7414N; VALUE: 7414
footprint DIP_14 (DIP, pitch 2.54mm, 300mil Width)
part A pins: 1 A (in), 2 Y (out), 7 GND (power), 14 VCC (power)
part B pins: 3 A (in), 4 Y (out)
part C pins: 5 A (in), 6 Y (out)
part D pins: 8 Y (out), 9 A (in)
part E pins: 10 Y (out), 11 A (in)
part F pins: 12 Y (out), 13 A (in)

## SN7450N
designator U?, comment SN7450
GATE, 2AND-2NOR; MANF: TI; MANF_P#: SN7450N; VALUE: SN7450
footprint DIP_14 (DIP, pitch 2.54mm, 300mil Width)
part A pins: 1 A (in), 7 GND (power), 8 Y (out), 9 C (in), 10 D (in), 11 X, 12 ~{X}, 13 B (in), 14 VCC (power)
part B pins: 2 A (in), 3 B (in), 4 C (in), 5 D (in), 6 Y (out)
part A text: X#

## SN74265N
designator U?, comment SN74265
GATE, Quad Comp-Output; MANF: Texas Instruments; MANF_P#: SN74265N; VALUE: SN74265
footprint DIP_16 (DIP, pitch 2.54mm, 300mil Width)
part A pins: 1 A (in), 2 W (out), 3 Y (out), 8 GND (power), 16 VCC (power)
part B pins: 4 A (in), 5 B (in), 6 Y (out), 7 W (out)
part C pins: 9 W (out), 10 Y (out), 11 A (in), 12 B (in)
part D pins: 13 W (out), 14 Y (out), 15 A (in)

## XNORx4_SN74HC266_SOP
designator U?, comment 74266
GATE, XNOR, Quad 2-Input; MANF: Texas Instruments; MANF_P#: SN74HC266D; PARAM2: 2~5V; PARAM: 4mA, 26ns; VALUE: 74266
footprint SO_14 (SOP, SOIC, 3.9mm width, 1.27mm pitch,)
part A pins: 1 A (in), 2 B (in), 3 Y (out), 7 GND (power), 14 VCC (power)
part B pins: 4 A (in), 5 B (in), 6 Y (out)
part C pins: 8 Y (out), 9 A (in), 10 B (in)
part D pins: 11 Y (out), 12 A (in), 13 B (in)

## XNORx4_SN74LS266_DIP
designator U?, comment 74266
GATE, XNOR, Quad 2-Input; MANF: Texas Instruments; MANF_P#: SN74LS266N; PARAM2: 4.75~5.25V; PARAM: 8mA, 30ns; VALUE: 74266
footprint DIP_14 (DIP, pitch 2.54mm, 300mil Width)
part A pins: 1 A (in), 2 B (in), 3 Y (out), 7 GND (power), 14 VCC (power)
part B pins: 4 A (in), 5 B (in), 6 Y (out)
part C pins: 8 Y (out), 9 A (in), 10 B (in)
part D pins: 11 Y (out), 12 A (in), 13 B (in)

## XOR_SN74LVC1G86_SOT353
designator U?, comment 741G86
GATE, XOR, One 2 INPUT; MANF: Texas Instruments; MANF_P#: SN74LVC1G86MDCK; VALUE: 741G86
footprint SOT353_5 (SC-88A, SC70-5, SOT-353, DCK (TI), 0.65mm pitch 2X1.3mm body)
pins: 1 A (in), 2 B, 3 GND (power), 4 Y, 5 VCC (power)

## XORx4_SN74AC86_SOP
designator U?, comment 7486
GATE, XOR, Quad 2-Input; MANF: Texas Instruments; MANF_P#: SN74AC86DR; PARAM2: 2~5.25V; PARAM: 24mA, 9ns; VALUE: 7486
footprint DIP_14 (DIP, pitch 2.54mm, 300mil Width)
part A pins: 1 A (in), 2 B (in), 3 Y (out), 7 GND (power), 14 VCC (power)
part B pins: 4 A (in), 5 B (in), 6 Y (out)
part C pins: 8 Y (out), 9 A (in), 10 B (in)
part D pins: 11 Y (out), 12 A (in), 13 B (in)

## XORx4_SN74LS86_DIP
designator U?, comment 7486
GATE, XOR, Quad 2-Input; MANF: Texas Instruments; MANF_P#: SN74LS86AN; PARAM2: 4.75~5.25V; PARAM: 16mA, 30ns; VALUE: 7486
footprint DIP_14 (DIP, pitch 2.54mm, 300mil Width)
part A pins: 1 A (in), 2 B (in), 3 Y (out), 7 GND (power), 14 VCC (power)
part B pins: 4 A (in), 5 B (in), 6 Y (out)
part C pins: 8 Y (out), 9 A (in), 10 B (in)
part D pins: 11 Y (out), 12 A (in), 13 B (in)

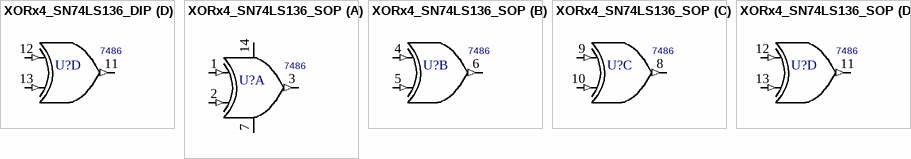
[diagram p6: symbols XORx4_SN74LS136_DIP to XORx4_SN74LS136_SOP]

## XORx4_SN74LS136_DIP
designator U?, comment 7486
GATE, XOR, Quad 2-Input, Open Collector; MANF: Texas Instruments; MANF_P#: SN74LS136N; PARAM2: 4.75~5.25V; PARAM: 16mA, 30ns; VALUE: 7486
footprint DIP_14 (DIP, pitch 2.54mm, 300mil Width)
part A pins: 1 A (in), 2 B (in), 3 Y (out), 7 GND (power), 14 VCC (power)
part B pins: 4 A (in), 5 B (in), 6 Y (out)
part C pins: 8 Y (out), 9 A (in), 10 B (in)
part D pins: 11 Y (out), 12 A (in), 13 B (in)

## XORx4_SN74LS136_SOP
designator U?, comment 7486
GATE, XOR, Quad 2-Input, Open Collector; MANF: Texas Instruments; MANF_P#: SN74LS136D; PARAM2: 4.75~5.25V; PARAM: 16mA, 30ns; VALUE: 7486
footprint SO_14 (SOP, SOIC, 3.9mm width, 1.27mm pitch,)
part A pins: 1 A (in), 2 B (in), 3 Y (out), 7 GND (power), 14 VCC (power)
part B pins: 4 A (in), 5 B (in), 6 Y (out)
part C pins: 8 Y (out), 9 A (in), 10 B (in)
part D pins: 11 Y (out), 12 A (in), 13 B (in)